# EAGLE library part 12AX7-P (library mb3_tubes)
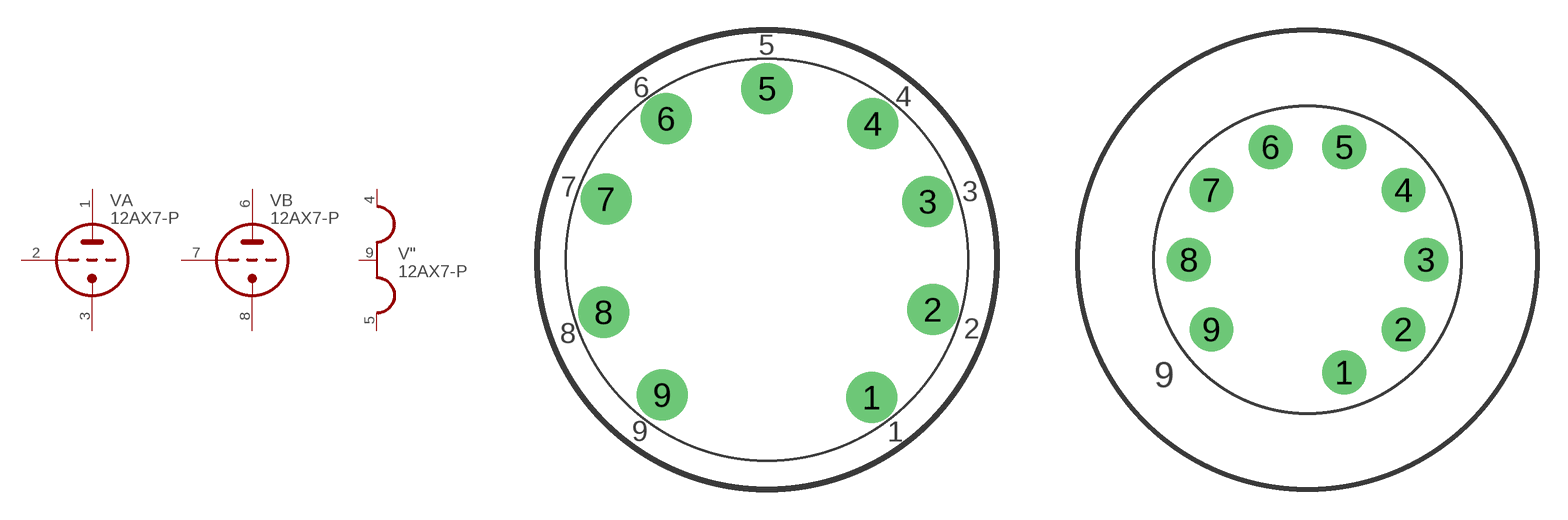
[diagram p48: symbol with the pads of NOVAL; footprints NOVAL, NOVAL_PINS]

Designator prefix V; gates A=TRIODE B=TRIODE "=HEATER_2

## 12AX7-P  [NOVAL]
1  A:TA  pas
2  A:TG  pas
3  A:TK  pas
4  ":H1  pas
5  ":H3  pas
6  B:TA  pas
7  B:TG  pas
8  B:TK  pas
9  ":H2  pas

## 12AX7-PPINS  [NOVAL_PINS]
Pads as for NOVAL

## Footprint NOVAL (pad centres in mm)
drill 1.422 pad 2.54: 1 5.207,-6.858; 2 8.254,-2.484; 3 8.004,2.893; 4 5.258,6.77; 5 0,8.524; 6 -5.004,7.024; 7 -8.004,3.02; 8 -8.127,-2.611; 9 -5.207,-6.731

## Footprint NOVAL_PINS (pad centres in mm)
drill 1.4 pad 2.184: 1 1.823,-5.611; 2 4.773,-3.468; 3 5.9,0; 4 4.773,3.468; 5 1.823,5.611; 6 -1.823,5.611; 7 -4.773,3.468; 8 -5.9,0; 9 -4.773,-3.468